# Altium integrated library Analog Devices Clock Generation and Distribution.IntLib: 120 symbols (part 10 of 18)
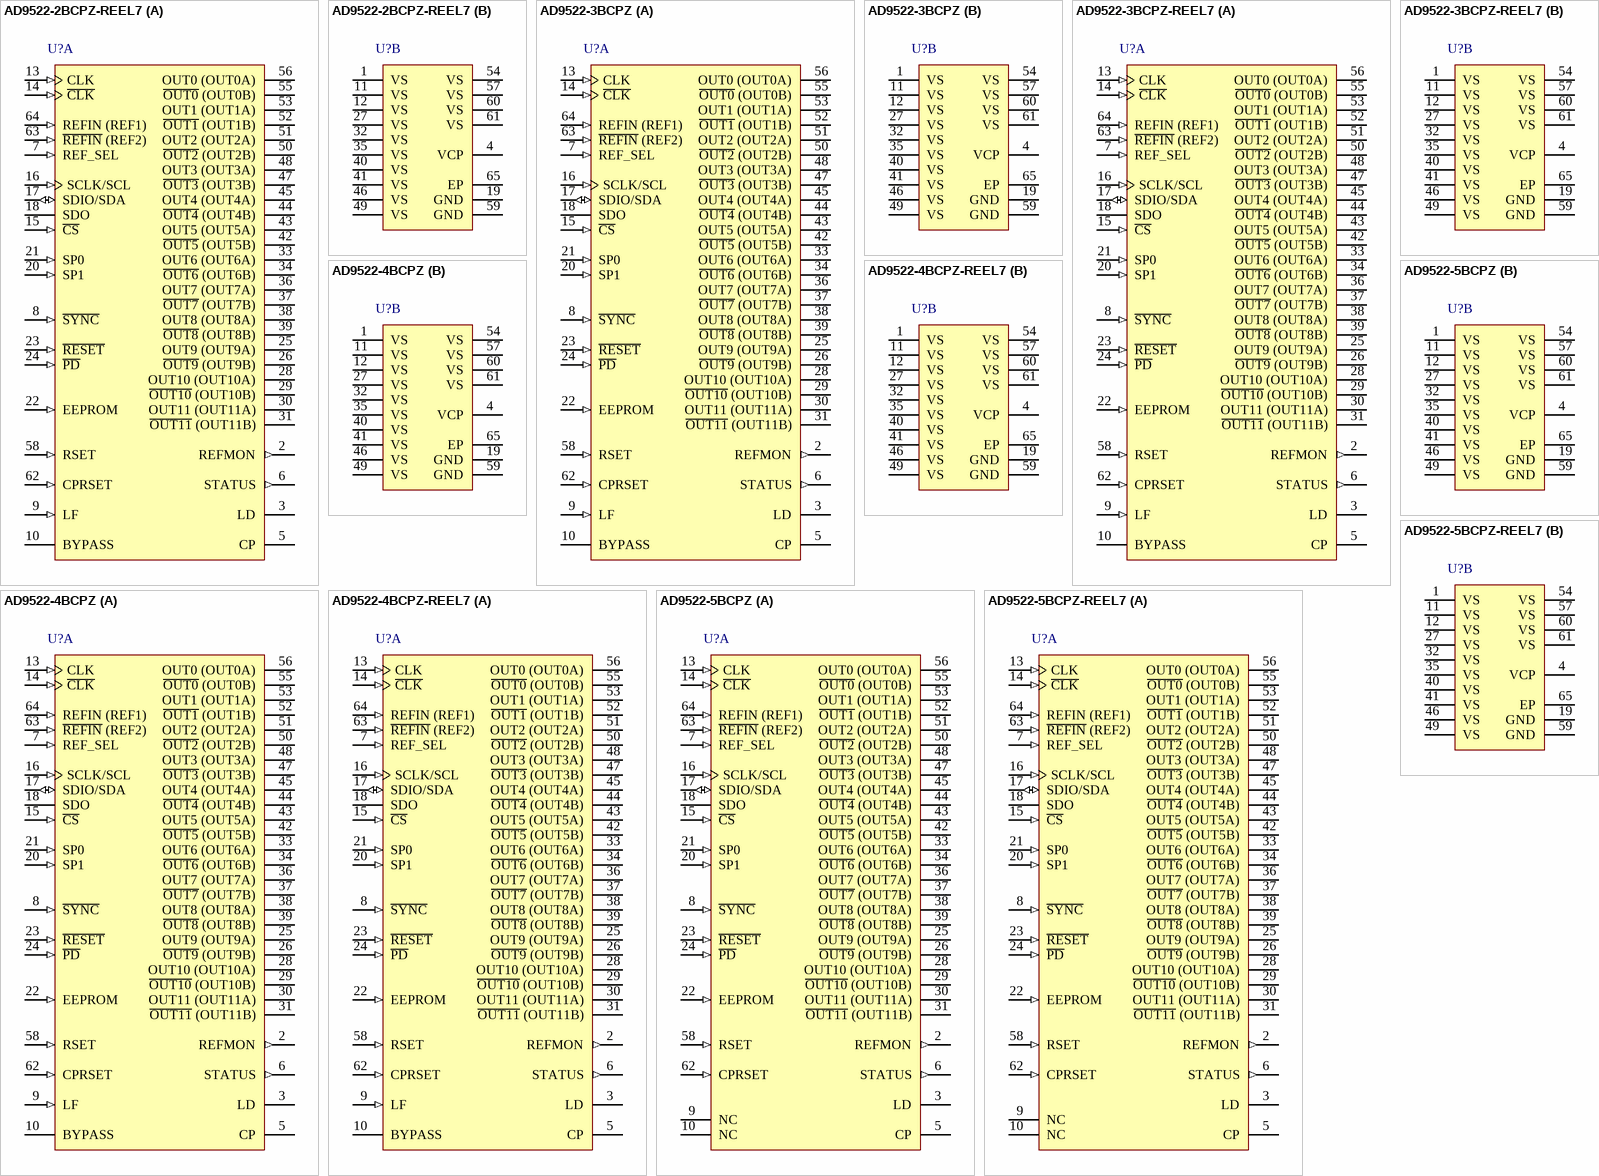
[diagram p21: symbols AD9522-2BCPZ-REEL7 to AD9522-5BCPZ-REEL7]

## AD9522-4BCPZ-REEL7
designator U?
12 LVDS / 24 CMOS Outputs Clock Generator with Integrated 1.6 GHz VCO, 3.3 V Supply, Industrial, 64-pin QFN (CP-64-4), Reel; Manufacturer: Analog Devices; PartNumber: AD9522-4BCPZ-REEL7; # of Inputs: 2; # of Outputs: 24; Supply Voltage (V): 3.3; I/O Interface: Serial; Max f-out: 1.8 GHz; On-Chip VCO or DCO: Yes; Output Logic: CMOS, LVDS; DatasheetVersion: Rev. 0; PackageVersion: 06-12-2012-B, 06/2012; PackageReference: CP-64-4; PackageDescription: 64-Pin Lead Frame Chip Scale Package, Body 9 x 9 mm, Pitch 0.5 mm; Supplier 1: Digi-Key; Supplier Part Number 1: AD9522-4BCPZ-REEL7-ND; Supplier 2: Newark; Supplier Part Number 2: 74R6036; Supplier 3: Mouser; Supplier Part Number 3: 584-AD9522-4BCPZR7; Packing: Reel; Mounting Technology: Surface Mount; Code_JEDEC: MO-220-VMMD-4; ComponentLink1Description: Manufacturer URL; ComponentLink1URL: http://www.analog.com/en/index.html; ComponentLink2Description: Datasheet; ComponentLink2URL: http://www.analog.com/static/imported-files/data_sheets/AD9522-4.pdf; ComponentLink3Description: Package Specification; ComponentLink3URL: http://www.analog.com/static/imported-files/packages/PKG_PDF/LFCSP(CP)/CP_64_4.pdf; ComponentLink4Description: Product URL; ComponentLink4URL: http://www.analog.com/en/clock-and-timing/clock-generation-and-distribution/ad9522-4/products/product.html
footprint ADI-CP-64-4_N (QFN, 64-Leads, Body 9x9mm, Pitch 0.5mm, Thermal Pad 6.2x6.2mm, IPC Medium Density)
footprint ADI-CP-64-4_L (QFN, 64-Leads, Body 9x9mm, Pitch 0.5mm, Thermal Pad 6.2x6.2mm, IPC High Density)
footprint ADI-CP-64-4_M (QFN, 64-Leads, Body 9x9mm, Pitch 0.5mm, Thermal Pad 6.2x6.2mm, IPC Low Density)
part A pins: 2 REFMON (out) "Reference Monitor (Output). This pin has multiple selectable outputs", 3 LD (hiz) "Lock Detect (Output). This pin has multiple selectable outputs.", 5 CP (hiz) "Charge Pump (Output). This pin connects to an external loop filter. This pin can be left unconnected if the PLL is not used.", 6 STATUS (out) "Programmable Status Output.", 7 REF_SEL (in) "Reference Select. It selects REF1 (low) or REF2 (high). This pin has an internal 30 K ohm pull-down resistor", 8 ~{SYNC} (in) "Manual Synchronizations and Manual Holdover. This pin initiates a manual synchronization and is used for manual holdover. Active low. This pin has an internal 30 K ohm pull-up resistor.", 9 LF (in) "Loop Filter (Input). It connects internally to the VCO control voltage node.", 10 BYPASS "This pin is for bypassing the LDO to ground with a 220 nF capacitor. This pin can be left unconnected if the PLL is not used.", 13 CLK (in) "Along with C\L\K\, this pin is the differential input for the clock distribution section.", 14 ~{CLK} (in) "Along with CLK, this pin is the differential input for the clock distribution section. If a single-ended input is connected to the CLK pin, connect a 0.1 uF bypass capacitor from this pin to ground.", 15 ~{CS} (in) "Serial Control Port Chip Select; Active Low. This pin has an internal 30 K ohm pull-up resistor.", 16 SCLK/SCL (in) "Serial Control Port Clock Signal. This pin has an internal 30 K ohm pull-down resistor in SPI mode but is high impedance in I2C mode", 17 SDIO/SDA (io) "Serial Control Port Bidirectional Serial Data In/Out", 18 SDO (hiz) "Serial Control Port Unidirectional Serial Data Out.", 20 SP1 (in) "Select SPI or I2C as the serial interface port and select the I2C slave address in I2C mode. Three-level logic. This pin is internally biased for the open logic level.", 21 SP0 (in) "Select SPI or I2C as the serial interface port and select the I2C slave address in I2C mode. Three-level logic. This pin is internally biased for the open logic level.", 22 EEPROM (in) "Setting this pin high selects the register values stored in the internal EEPROM to be loaded at reset and/or power-up. Setting this pin low causes the AD9522 to load the hard-coded default register values at power-up/reset. This pin has an internal 30 oh", 23 ~{RESET} (in) "Chip Reset, Active Low. This pin has an internal 30 K ohm pull-up resistor.", 24 ~{PD} (in) "Chip Power-Down, Active Low. This pin has an internal 30 K ohm pull-up resistor.", 25 OUT9 (OUT9A) (hiz) "Clock Output. This pin can be configured as one side of a differential LVDS outputor as a single-ended CMOS output.", 26 ~{OUT9} (OUT9B) (hiz) "Clock Output. This pin can be configured as one side of a differential LVDS outputor as a single-ended CMOS output.", 28 OUT10 (OUT10A) (hiz) "Clock Output. This pin can be configured as one side of a differential LVDS outputor as a single-ended CMOS output.", 29 ~{OUT10} (OUT10B) (hiz) "Clock Output. This pin can be configured as one side of a differential LVDS outputor as a single-ended CMOS output.", 30 OUT11 (OUT11A) (hiz) "Clock Output. This pin can be configured as one side of a differential LVDS outputor as a single-ended CMOS output.", 31 ~{OUT11} (OUT11B) (hiz) "Clock Output. This pin can be configured as one side of a differential LVDS outputor as a single-ended CMOS output.", 33 OUT6 (OUT6A) (hiz) "Clock Output. This pin can be configured as one side of a differential LVDS outputor as a single-ended CMOS output.", 34 ~{OUT6} (OUT6B) (hiz) "Clock Output. This pin can be configured as one side of a differential LVDS outputor as a single-ended CMOS output.", 36 OUT7 (OUT7A) (hiz) "Clock Output. This pin can be configured as one side of a differential LVDS outputor as a single-ended CMOS output.", 37 ~{OUT7} (OUT7B) (hiz) "Clock Output. This pin can be configured as one side of a differential LVDS outputor as a single-ended CMOS output.", 38 OUT8 (OUT8A) (hiz) "Clock Output. This pin can be configured as one side of a differential LVDS outputor as a single-ended CMOS output.", 39 ~{OUT8} (OUT8B) (hiz) "Clock Output. This pin can be configured as one side of a differential LVDS outputor as a single-ended CMOS output.", 42 ~{OUT5} (OUT5B) (hiz) "Clock Output. This pin can be configured as one side of a differential LVDS outputor as a single-ended CMOS output.", 43 OUT5 (OUT5A) (hiz) "Clock Output. This pin can be configured as one side of a differential LVDS outputor as a single-ended CMOS output.", 44 ~{OUT4} (OUT4B) (hiz) "Clock Output. This pin can be configured as one side of a differential LVDS outputor as a single-ended CMOS output.", 45 OUT4 (OUT4A) (hiz) "Clock Output. This pin can be configured as one side of a differential LVDS outputor as a single-ended CMOS output.", 47 ~{OUT3} (OUT3B) (hiz) "Clock Output. This pin can be configured as one side of a differential LVDS outputor as a single-ended CMOS output.", 48 OUT3 (OUT3A) (hiz) "Clock Output. This pin can be configured as one side of a differential LVDS outputor as a single-ended CMOS output.", 50 ~{OUT2} (OUT2B) (hiz) "Clock Output. This pin can be configured as one side of a differential LVDS outputor as a single-ended CMOS output.", 51 OUT2 (OUT2A) (hiz) "Clock Output. This pin can be configured as one side of a differential LVDS outputor as a single-ended CMOS output.", 52 ~{OUT1} (OUT1B) (hiz) "Clock Output. This pin can be configured as one side of a differential LVDS outputor as a single-ended CMOS output.", 53 OUT1 (OUT1A) (hiz) "Clock Output. This pin can be configured as one side of a differential LVDS outputor as a single-ended CMOS output.", 55 ~{OUT0} (OUT0B) (hiz) "Clock Output. This pin can be configured as one side of a differential LVDS outputor as a single-ended CMOS output.", 56 OUT0 (OUT0A) (hiz) "Clock Output. This pin can be configured as one side of a differential LVDS outputor as a single-ended CMOS output.", 58 RSET (in) "Clock Distribution Current Set Resistor. Connect a 4.12 K ohm resistor from this pin to GND.", 62 CPRSET (in) "Charge Pump Current Set Resistor. Connect a 5.1 K ohm resistor from this pin to GND.This resistor can be omitted if the PLL is not used.", 63 ~{REFIN} (REF2) (in) "Along with REFIN, this is the differential input for the PLL reference. Alternatively, this pin is a single-ended input for REF2.", 64 REFIN (REF1) (in) "Along with R\E\F\I\N\, this is the differential input for the PLL reference. Alternatively, this pin is a single-ended input for REF1."
part B pins: 1 VS (power) "3.3 V Power Pins.", 4 VCP (power) "Power Supply for Charge Pump (CP); VS < VCP < 5.0 V. VCP must still be connected to 3.3 V if the PLL is not used", 11 VS (power) "3.3 V Power Pins.", 12 VS (power) "3.3 V Power Pins.", 19 GND (power) "Ground Pins.", 27 VS (power) "3.3 V Power Pins.", 32 VS (power) "3.3 V Power Pins.", 35 VS (power) "3.3 V Power Pins.", 40 VS (power) "3.3 V Power Pins.", 41 VS (power) "3.3 V Power Pins.", 46 VS (power) "3.3 V Power Pins.", 49 VS (power) "3.3 V Power Pins.", 54 VS (power) "3.3 V Power Pins.", 57 VS (power) "3.3 V Power Pins.", 59 GND (power) "Ground Pins.", 60 VS (power) "3.3 V Power Pins.", 61 VS (power) "3.3 V Power Pins.", 65 EP (power) "The exposed die pad must be connected to GND."

## AD9522-5BCPZ
designator U?
12 LVDS / 24 CMOS Outputs Clock Generator, 3.3 V Supply, Industrial, 64-pin QFN (CP-64-4), Tray; Manufacturer: Analog Devices; PartNumber: AD9522-5BCPZ; # of Inputs: 2; # of Outputs: 24; Supply Voltage (V): 3.3; I/O Interface: Serial; Max f-out: 2.4 GHz; On-Chip VCO or DCO: No; Output Logic: CMOS, LVDS; DatasheetVersion: Rev. 0; PackageVersion: 06-12-2012-B, 06/2012; PackageReference: CP-64-4; PackageDescription: 64-Pin Lead Frame Chip Scale Package, Body 9 x 9 mm, Pitch 0.5 mm; Supplier 1: Digi-Key; Supplier Part Number 1: AD9522-5BCPZ-ND; Supplier 2: Mouser; Supplier Part Number 2: 584-AD9522-5BCPZ; Packing: Tray; Mounting Technology: Surface Mount; Code_JEDEC: MO-220-VMMD-4; ComponentLink1Description: Manufacturer URL; ComponentLink1URL: http://www.analog.com/en/index.html; ComponentLink2Description: Datasheet; ComponentLink2URL: http://www.analog.com/static/imported-files/data_sheets/AD9522-5.pdf; ComponentLink3Description: Package Specification; ComponentLink3URL: http://www.analog.com/static/imported-files/packages/PKG_PDF/LFCSP(CP)/CP_64_4.pdf; ComponentLink4Description: Product URL; ComponentLink4URL: http://www.analog.com/en/clock-and-timing/clock-generation-and-distribution/ad9522-5/products/product.html
footprint ADI-CP-64-4_N (QFN, 64-Leads, Body 9x9mm, Pitch 0.5mm, Thermal Pad 6.2x6.2mm, IPC Medium Density)
footprint ADI-CP-64-4_L (QFN, 64-Leads, Body 9x9mm, Pitch 0.5mm, Thermal Pad 6.2x6.2mm, IPC High Density)
footprint ADI-CP-64-4_M (QFN, 64-Leads, Body 9x9mm, Pitch 0.5mm, Thermal Pad 6.2x6.2mm, IPC Low Density)
part A pins: 2 REFMON (out) "Reference Monitor (Output). This pin has multiple selectable outputs.", 3 LD (hiz) "Lock Detect (Output). This pin has multiple selectable outputs.", 5 CP (hiz) "Charge Pump (Output). This pin connects to an external loop filter. This pin can be left unconnected if the PLL is not used.", 6 STATUS (out) "Programmable Status Output.", 7 REF_SEL (in) "Reference Select. It selects REF1 (low) or REF2 (high). This pin has an internal 30 K ohm pull-down resistor.", 8 ~{SYNC} (in) "Manual Synchronizations and Manual Holdover. This pin initiates a manual synchronization and is used for manual holdover. Active low. This pin has an internal 30 K ohm pull-up resistor.", 9 NC "No Connect. These pins can be left floating.", 10 NC "No Connect. These pins can be left floating.", 13 CLK (in) "Along with C\L\K\, this pin is the differential input for the clock distribution section.", 14 ~{CLK} (in) "Along with CLK, this pin is the differential input for the clock distribution section. If a single-ended input is connected to the CLK pin, connect a 0.1 uF bypass capacitor from this pin to ground.", 15 ~{CS} (in) "Serial Control Port Chip Select; Active Low. This pin has an internal 30 K ohm pull-up resistor.", 16 SCLK/SCL (in) "Serial Control Port Clock Signal. This pin has an internal 30 K ohm pull-down resistor in SPI mode but is high impedance in I2C mode.", 17 SDIO/SDA (io) "Serial Control Port Bidirectional Serial Data In/Out.", 18 SDO (hiz) "Serial Control Port Unidirectional Serial Data Out.", 20 SP1 (in) "Select SPI or I2C as the serial interface port and select the I2C slave address in I2C mode. Three-level logic. This pin is internally biased for the open logic level.", 21 SP0 (in) "Select SPI or I2C as the serial interface port and select the I2C slave address in I2C mode. Three-level logic. This pin is internally biased for the open logic level.", 22 EEPROM (in) "Setting this pin high selects the register values stored in the internal EEPROM to be loaded at reset and/or power-up. [see datasheet]", 23 ~{RESET} (in) "Chip Reset, Active Low. This pin has an internal 30 K ohm pull-up resistor.", 24 ~{PD} (in) "Chip Power-Down, Active Low. This pin has an internal 30 K ohm pull-up resistor.", 25 OUT9 (OUT9A) (hiz) "Clock Output. This pin can be configured as one side of a differential LVDS outputor as a single-ended CMOS output.", 26 ~{OUT9} (OUT9B) (hiz) "Clock Output. This pin can be configured as one side of a differential LVDS outputor as a single-ended CMOS output.", 28 OUT10 (OUT10A) (hiz) "Clock Output. This pin can be configured as one side of a differential LVDS outputor as a single-ended CMOS output.", 29 ~{OUT10} (OUT10B) (hiz) "Clock Output. This pin can be configured as one side of a differential LVDS outputor as a single-ended CMOS output.", 30 OUT11 (OUT11A) (hiz) "Clock Output. This pin can be configured as one side of a differential LVDS outputor as a single-ended CMOS output.", 31 ~{OUT11} (OUT11B) (hiz) "Clock Output. This pin can be configured as one side of a differential LVDS outputor as a single-ended CMOS output.", 33 OUT6 (OUT6A) (hiz) "Clock Output. This pin can be configured as one side of a differential LVDS outputor as a single-ended CMOS output.", 34 ~{OUT6} (OUT6B) (hiz) "Clock Output. This pin can be configured as one side of a differential LVDS outputor as a single-ended CMOS output.", 36 OUT7 (OUT7A) (hiz) "Clock Output. This pin can be configured as one side of a differential LVDS outputor as a single-ended CMOS output.", 37 ~{OUT7} (OUT7B) (hiz) "Clock Output. This pin can be configured as one side of a differential LVDS outputor as a single-ended CMOS output.", 38 OUT8 (OUT8A) (hiz) "Clock Output. This pin can be configured as one side of a differential LVDS outputor as a single-ended CMOS output.", 39 ~{OUT8} (OUT8B) (hiz) "Clock Output. This pin can be configured as one side of a differential LVDS outputor as a single-ended CMOS output.", 42 ~{OUT5} (OUT5B) (hiz) "Clock Output. This pin can be configured as one side of a differential LVDS outputor as a single-ended CMOS output.", 43 OUT5 (OUT5A) (hiz) "Clock Output. This pin can be configured as one side of a differential LVDS outputor as a single-ended CMOS output.", 44 ~{OUT4} (OUT4B) (hiz) "Clock Output. This pin can be configured as one side of a differential LVDS outputor as a single-ended CMOS output.", 45 OUT4 (OUT4A) (hiz) "Clock Output. This pin can be configured as one side of a differential LVDS outputor as a single-ended CMOS output.", 47 ~{OUT3} (OUT3B) (hiz) "Clock Output. This pin can be configured as one side of a differential LVDS outputor as a single-ended CMOS output.", 48 OUT3 (OUT3A) (hiz) "Clock Output. This pin can be configured as one side of a differential LVDS outputor as a single-ended CMOS output.", 50 ~{OUT2} (OUT2B) (hiz) "Clock Output. This pin can be configured as one side of a differential LVDS outputor as a single-ended CMOS output.", 51 OUT2 (OUT2A) (hiz) "Clock Output. This pin can be configured as one side of a differential LVDS outputor as a single-ended CMOS output.", 52 ~{OUT1} (OUT1B) (hiz) "Clock Output. This pin can be configured as one side of a differential LVDS outputor as a single-ended CMOS output.", 53 OUT1 (OUT1A) (hiz) "Clock Output. This pin can be configured as one side of a differential LVDS outputor as a single-ended CMOS output.", 55 ~{OUT0} (OUT0B) (hiz) "Clock Output. This pin can be configured as one side of a differential LVDS outputor as a single-ended CMOS output.", 56 OUT0 (OUT0A) (hiz) "Clock Output. This pin can be configured as one side of a differential LVDS outputor as a single-ended CMOS output.", 58 RSET (in) "Clock Distribution Current Set Resistor. Connect a 4.12 K ohm resistor from this pin to GND.", 62 CPRSET (in) "Charge Pump Current Set Resistor. Connect a 5.1 K ohm resistor from this pin to GND.This resistor can be omitted if the PLL is not used.", 63 ~{REFIN} (REF2) (in) "Along with REFIN, this is the differential input for the PLL reference. Alternatively, this pin is a single-ended input for REF2.", 64 REFIN (REF1) (in) "Along with R\E\F\I\N\, this is the differential input for the PLL reference. Alternatively, this pin is a single-ended input for REF1."
part B pins: 1 VS (power) "3.3 V Power Pins.", 4 VCP (power) "Power Supply for Charge Pump (CP); VS =< VCP =< 5.25 V. VCP must still be connected to 3.3 V if the PLL is not used.", 11 VS (power) "3.3 V Power Pins.", 12 VS (power) "3.3 V Power Pins.", 19 GND (power) "Ground Pins.", 27 VS (power) "3.3 V Power Pins.", 32 VS (power) "3.3 V Power Pins.", 35 VS (power) "3.3 V Power Pins.", 40 VS (power) "3.3 V Power Pins.", 41 VS (power) "3.3 V Power Pins.", 46 VS (power) "3.3 V Power Pins.", 49 VS (power) "3.3 V Power Pins.", 54 VS (power) "3.3 V Power Pins.", 57 VS (power) "3.3 V Power Pins.", 59 GND (power) "Ground Pins.", 60 VS (power) "3.3 V Power Pins.", 61 VS (power) "3.3 V Power Pins.", 65 EP (power) "The exposed die pad must be connected to GND."

## AD9522-5BCPZ-REEL7
designator U?
12 LVDS / 24 CMOS Outputs Clock Generator, 3.3 V Supply, Industrial, 64-pin QFN (CP-64-4), Reel; Manufacturer: Analog Devices; PartNumber: AD9522-5BCPZ-REEL7; # of Inputs: 2; # of Outputs: 24; Supply Voltage (V): 3.3; I/O Interface: Serial; Max f-out: 2.4 GHz; On-Chip VCO or DCO: No; Output Logic: CMOS, LVDS; DatasheetVersion: Rev. 0; PackageVersion: 06-12-2012-B, 06/2012; PackageReference: CP-64-4; PackageDescription: 64-Pin Lead Frame Chip Scale Package, Body 9 x 9 mm, Pitch 0.5 mm; Supplier 1: Digi-Key; Supplier Part Number 1: AD9522-5BCPZ-REEL7-ND; Supplier 2: Mouser; Supplier Part Number 2: 584-AD9522-5BCPZR7; Packing: Reel; Mounting Technology: Surface Mount; Code_JEDEC: MO-220-VMMD-4; ComponentLink1Description: Manufacturer URL; ComponentLink1URL: http://www.analog.com/en/index.html; ComponentLink2Description: Datasheet; ComponentLink2URL: http://www.analog.com/static/imported-files/data_sheets/AD9522-5.pdf; ComponentLink3Description: Package Specification; ComponentLink3URL: http://www.analog.com/static/imported-files/packages/PKG_PDF/LFCSP(CP)/CP_64_4.pdf; ComponentLink4Description: Product URL; ComponentLink4URL: http://www.analog.com/en/clock-and-timing/clock-generation-and-distribution/ad9522-5/products/product.html
footprint ADI-CP-64-4_N (QFN, 64-Leads, Body 9x9mm, Pitch 0.5mm, Thermal Pad 6.2x6.2mm, IPC Medium Density)
footprint ADI-CP-64-4_L (QFN, 64-Leads, Body 9x9mm, Pitch 0.5mm, Thermal Pad 6.2x6.2mm, IPC High Density)
footprint ADI-CP-64-4_M (QFN, 64-Leads, Body 9x9mm, Pitch 0.5mm, Thermal Pad 6.2x6.2mm, IPC Low Density)
part A pins: 2 REFMON (out) "Reference Monitor (Output). This pin has multiple selectable outputs.", 3 LD (hiz) "Lock Detect (Output). This pin has multiple selectable outputs.", 5 CP (hiz) "Charge Pump (Output). This pin connects to an external loop filter. This pin can be left unconnected if the PLL is not used.", 6 STATUS (out) "Programmable Status Output.", 7 REF_SEL (in) "Reference Select. It selects REF1 (low) or REF2 (high). This pin has an internal 30 K ohm pull-down resistor.", 8 ~{SYNC} (in) "Manual Synchronizations and Manual Holdover. This pin initiates a manual synchronization and is used for manual holdover. Active low. This pin has an internal 30 K ohm pull-up resistor.", 9 NC "No Connect. These pins can be left floating.", 10 NC "No Connect. These pins can be left floating.", 13 CLK (in) "Along with C\L\K\, this pin is the differential input for the clock distribution section.", 14 ~{CLK} (in) "Along with CLK, this pin is the differential input for the clock distribution section. If a single-ended input is connected to the CLK pin, connect a 0.1 uF bypass capacitor from this pin to ground.", 15 ~{CS} (in) "Serial Control Port Chip Select; Active Low. This pin has an internal 30 K ohm pull-up resistor.", 16 SCLK/SCL (in) "Serial Control Port Clock Signal. This pin has an internal 30 K ohm pull-down resistor in SPI mode but is high impedance in I2C mode.", 17 SDIO/SDA (io) "Serial Control Port Bidirectional Serial Data In/Out.", 18 SDO (hiz) "Serial Control Port Unidirectional Serial Data Out.", 20 SP1 (in) "Select SPI or I2C as the serial interface port and select the I2C slave address in I2C mode. Three-level logic. This pin is internally biased for the open logic level.", 21 SP0 (in) "Select SPI or I2C as the serial interface port and select the I2C slave address in I2C mode. Three-level logic. This pin is internally biased for the open logic level.", 22 EEPROM (in) "Setting this pin high selects the register values stored in the internal EEPROM to be loaded at reset and/or power-up. [see datasheet]", 23 ~{RESET} (in) "Chip Reset, Active Low. This pin has an internal 30 K ohm pull-up resistor.", 24 ~{PD} (in) "Chip Power-Down, Active Low. This pin has an internal 30 K ohm pull-up resistor.", 25 OUT9 (OUT9A) (hiz) "Clock Output. This pin can be configured as one side of a differential LVDS outputor as a single-ended CMOS output.", 26 ~{OUT9} (OUT9B) (hiz) "Clock Output. This pin can be configured as one side of a differential LVDS outputor as a single-ended CMOS output.", 28 OUT10 (OUT10A) (hiz) "Clock Output. This pin can be configured as one side of a differential LVDS outputor as a single-ended CMOS output.", 29 ~{OUT10} (OUT10B) (hiz) "Clock Output. This pin can be configured as one side of a differential LVDS outputor as a single-ended CMOS output.", 30 OUT11 (OUT11A) (hiz) "Clock Output. This pin can be configured as one side of a differential LVDS outputor as a single-ended CMOS output.", 31 ~{OUT11} (OUT11B) (hiz) "Clock Output. This pin can be configured as one side of a differential LVDS outputor as a single-ended CMOS output.", 33 OUT6 (OUT6A) (hiz) "Clock Output. This pin can be configured as one side of a differential LVDS outputor as a single-ended CMOS output.", 34 ~{OUT6} (OUT6B) (hiz) "Clock Output. This pin can be configured as one side of a differential LVDS outputor as a single-ended CMOS output.", 36 OUT7 (OUT7A) (hiz) "Clock Output. This pin can be configured as one side of a differential LVDS outputor as a single-ended CMOS output.", 37 ~{OUT7} (OUT7B) (hiz) "Clock Output. This pin can be configured as one side of a differential LVDS outputor as a single-ended CMOS output.", 38 OUT8 (OUT8A) (hiz) "Clock Output. This pin can be configured as one side of a differential LVDS outputor as a single-ended CMOS output.", 39 ~{OUT8} (OUT8B) (hiz) "Clock Output. This pin can be configured as one side of a differential LVDS outputor as a single-ended CMOS output.", 42 ~{OUT5} (OUT5B) (hiz) "Clock Output. This pin can be configured as one side of a differential LVDS outputor as a single-ended CMOS output.", 43 OUT5 (OUT5A) (hiz) "Clock Output. This pin can be configured as one side of a differential LVDS outputor as a single-ended CMOS output.", 44 ~{OUT4} (OUT4B) (hiz) "Clock Output. This pin can be configured as one side of a differential LVDS outputor as a single-ended CMOS output.", 45 OUT4 (OUT4A) (hiz) "Clock Output. This pin can be configured as one side of a differential LVDS outputor as a single-ended CMOS output.", 47 ~{OUT3} (OUT3B) (hiz) "Clock Output. This pin can be configured as one side of a differential LVDS outputor as a single-ended CMOS output.", 48 OUT3 (OUT3A) (hiz) "Clock Output. This pin can be configured as one side of a differential LVDS outputor as a single-ended CMOS output.", 50 ~{OUT2} (OUT2B) (hiz) "Clock Output. This pin can be configured as one side of a differential LVDS outputor as a single-ended CMOS output.", 51 OUT2 (OUT2A) (hiz) "Clock Output. This pin can be configured as one side of a differential LVDS outputor as a single-ended CMOS output.", 52 ~{OUT1} (OUT1B) (hiz) "Clock Output. This pin can be configured as one side of a differential LVDS outputor as a single-ended CMOS output.", 53 OUT1 (OUT1A) (hiz) "Clock Output. This pin can be configured as one side of a differential LVDS outputor as a single-ended CMOS output.", 55 ~{OUT0} (OUT0B) (hiz) "Clock Output. This pin can be configured as one side of a differential LVDS outputor as a single-ended CMOS output.", 56 OUT0 (OUT0A) (hiz) "Clock Output. This pin can be configured as one side of a differential LVDS outputor as a single-ended CMOS output.", 58 RSET (in) "Clock Distribution Current Set Resistor. Connect a 4.12 K ohm resistor from this pin to GND.", 62 CPRSET (in) "Charge Pump Current Set Resistor. Connect a 5.1 K ohm resistor from this pin to GND.This resistor can be omitted if the PLL is not used.", 63 ~{REFIN} (REF2) (in) "Along with REFIN, this is the differential input for the PLL reference. Alternatively, this pin is a single-ended input for REF2.", 64 REFIN (REF1) (in) "Along with R\E\F\I\N\, this is the differential input for the PLL reference. Alternatively, this pin is a single-ended input for REF1."
part B pins: 1 VS (power) "3.3 V Power Pins.", 4 VCP (power) "Power Supply for Charge Pump (CP); VS =< VCP =< 5.25 V. VCP must still be connected to 3.3 V if the PLL is not used.", 11 VS (power) "3.3 V Power Pins.", 12 VS (power) "3.3 V Power Pins.", 19 GND (power) "Ground Pins.", 27 VS (power) "3.3 V Power Pins.", 32 VS (power) "3.3 V Power Pins.", 35 VS (power) "3.3 V Power Pins.", 40 VS (power) "3.3 V Power Pins.", 41 VS (power) "3.3 V Power Pins.", 46 VS (power) "3.3 V Power Pins.", 49 VS (power) "3.3 V Power Pins.", 54 VS (power) "3.3 V Power Pins.", 57 VS (power) "3.3 V Power Pins.", 59 GND (power) "Ground Pins.", 60 VS (power) "3.3 V Power Pins.", 61 VS (power) "3.3 V Power Pins.", 65 EP (power) "The exposed die pad must be connected to GND."

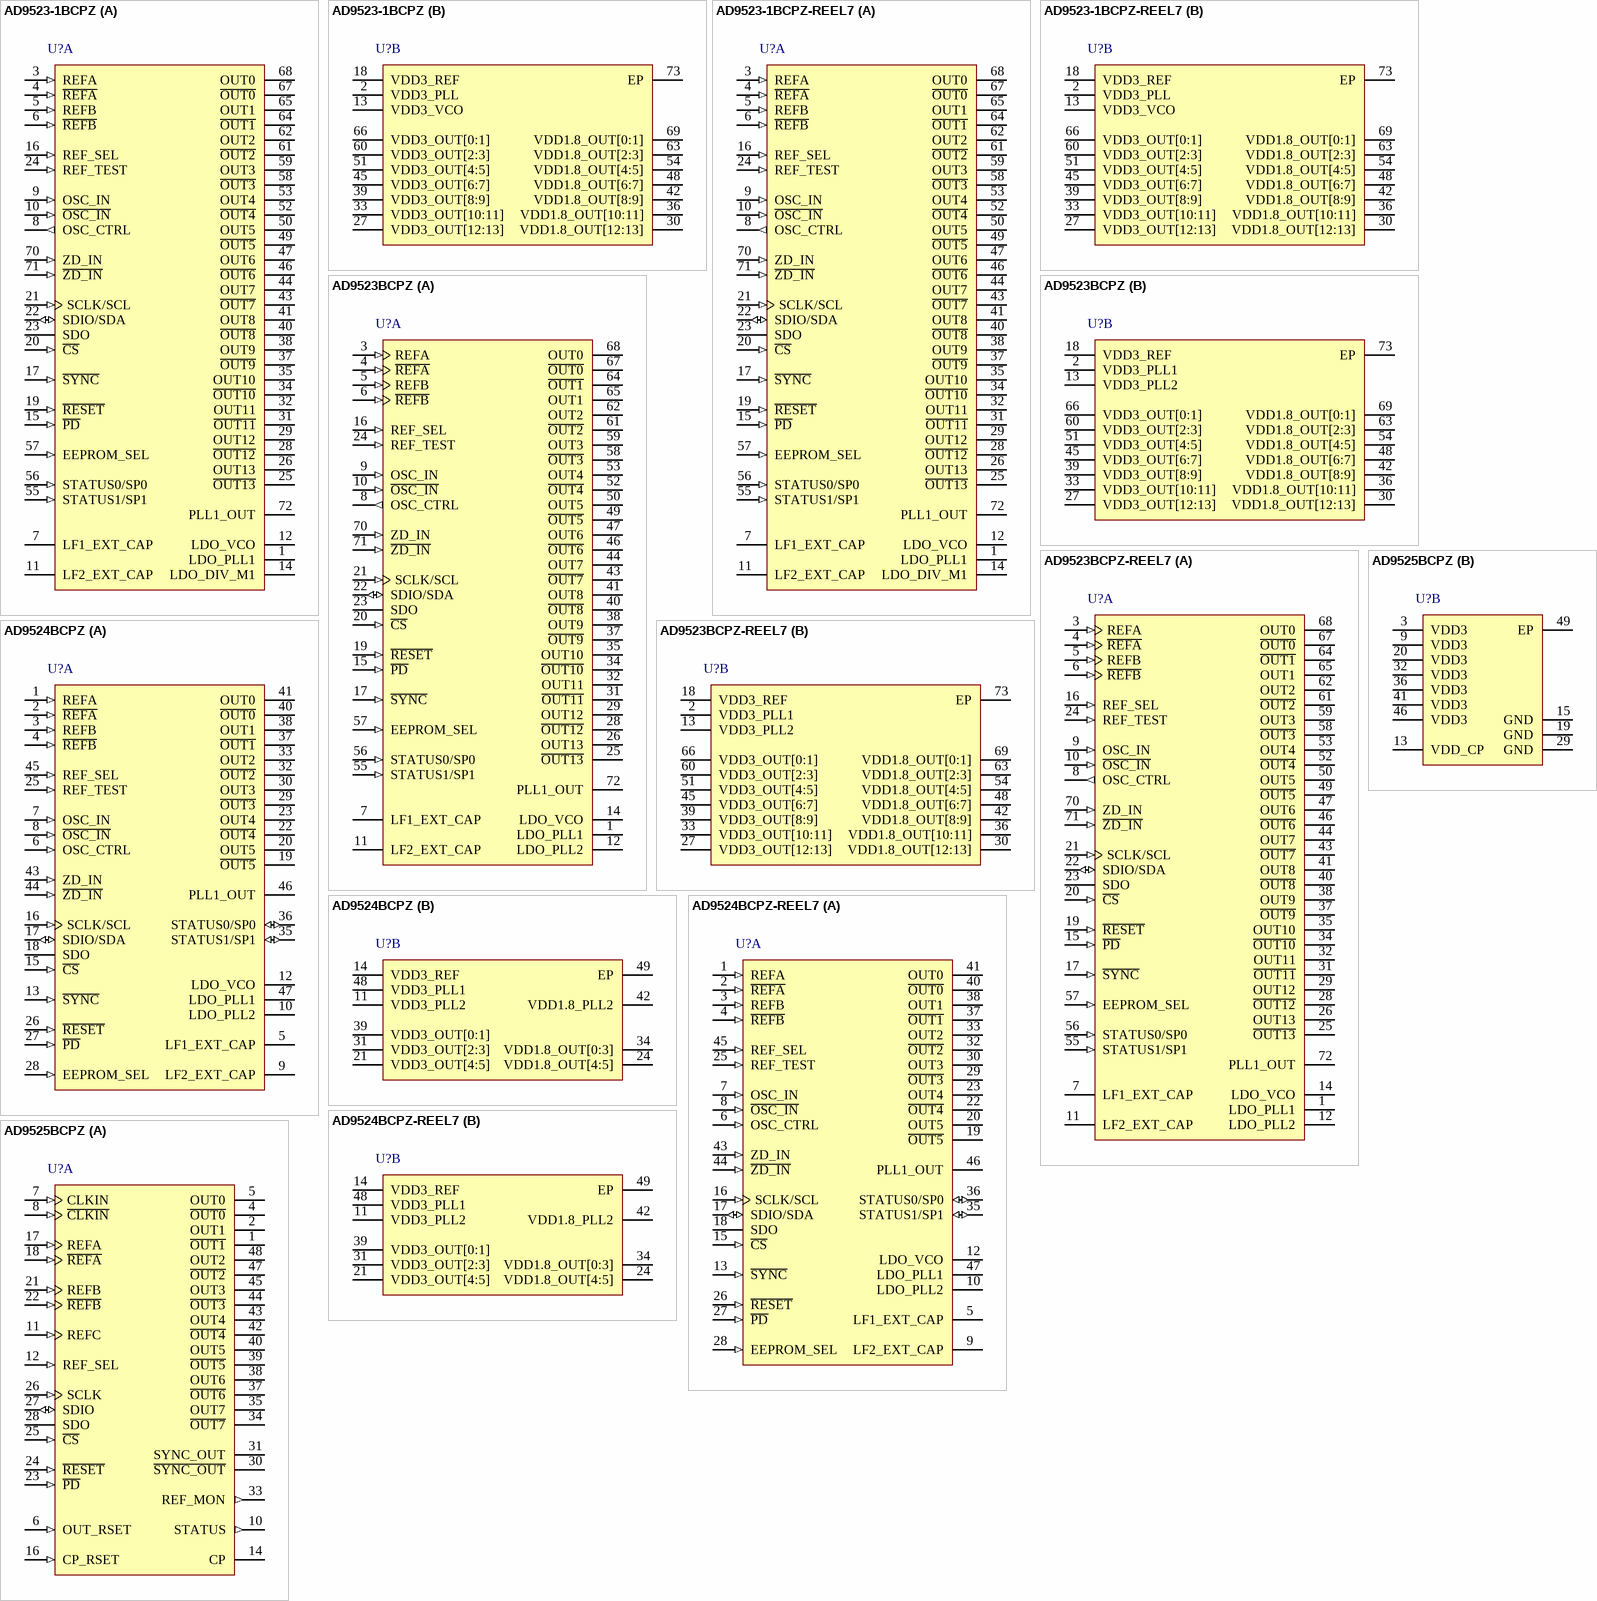
[diagram p7: symbols AD9523-1BCPZ to AD9525BCPZ]

## AD9523-1BCPZ
designator U?
14 LVPECL / LVDS / HSTL / 29 LVCMOS Outputs, Low Jitter Clock Generator, 3.3 V Supply, Industrial, 72-pin QFN (CP-72-7), Tray; Manufacturer: Analog Devices; PartNumber: AD9523-1BCPZ; # of Inputs: 1; # of Outputs: 29; Supply Voltage (V): 3.3; I/O Interface: Serial; Max f-out: 1 GHz; On-Chip VCO or DCO: Yes; Output Logic: LVCMOS, HSTL, LVDS, LVPECL; DatasheetVersion: Rev. B; PackageVersion: 052809-A, 09/2009; PackageReference: CP-72-7; PackageDescription: 72-Pin Lead Frame Chip Scale Package, Body 10 x 10 mm, Pitch 0.5 mm; Supplier 1: Digi-Key; Supplier Part Number 1: AD9523-1BCPZ-ND; Supplier 2: Farnell; Supplier Part Number 2: 2321453; Supplier 3: Newark; Supplier Part Number 3: 99W6467; Supplier 4: Mouser; Supplier Part Number 4: 584-AD9523-1BCPZ; Packing: Tray; Mounting Technology: Surface Mount; Code_JEDEC: MO-220-VNND-4; ComponentLink1Description: Manufacturer URL; ComponentLink1URL: http://www.analog.com/en/index.html; ComponentLink2Description: Datasheet; ComponentLink2URL: http://www.analog.com/static/imported-files/data_sheets/AD9523-1.pdf; ComponentLink3Description: Package Specification; ComponentLink3URL: http://www.analog.com/static/imported-files/packages/PKG_PDF/LFCSP(CP)/CP_72_7.pdf; ComponentLink4Description: Product URL; ComponentLink4URL: http://www.analog.com/en/clock-and-timing/clock-generation-and-distribution/ad9523-1/products/product.html
footprint ADI-CP-72-7_N (QFN, 72-Leads, Body 10x10mm, Pitch 0.5mm, Thermal Pad 6x6mm, IPC Medium Density)
footprint ADI-CP-72-7_L (QFN, 72-Leads, Body 10x10mm, Pitch 0.5mm, Thermal Pad 6x6mm, IPC High Density)
footprint ADI-CP-72-7_M (QFN, 72-Leads, Body 10x10mm, Pitch 0.5mm, Thermal Pad 6x6mm, IPC Low Density)
part A pins: 1 LDO_PLL1 "1.8 V Internal LDO Regulator Decoupling Pin for PLL1. Connect a 0.47 uF decoupling capacitor from this pin to ground. Note that for best performance, the LDO bypass capacitor must be placed in close proximity to the device.", 3 REFA (in) "Reference Clock Input A. Along with R\E\F\A\, this pin is the differential input for the PLL reference. Alternatively, this pin can be programmed as a single-ended 3.3 V CMOS input.", 4 ~{REFA} (in) "Complementary Reference Clock Input A. Along with REFA, this pin is the differential input for the PLL reference. Alternatively, this pin can be programmed as a single-ended 3.3V CMOS input.", 5 REFB (in) "Reference Clock Input B. Along with R\E\F\B\, this pin is the differential input for the PLL reference. Alternatively, this pin can be programmed as a single-ended 3.3 V CMOS input.", 6 ~{REFB} (in) "Complementary Reference Clock Input B. Along with REFB, this pin is the differential input for the PLL reference. Alternatively, this pin can be programmed as a single-ended 3.3 V CMOS input.", 7 LF1_EXT_CAP "PLL1 External Loop Filter Capacitor. Connect this pin to ground.", 8 OSC_CTRL (out) "Oscillator Control Voltage. Connect this pin to the voltage control pin of the external oscillator.", 9 OSC_IN (in) "PLL1 Oscillator Input. Along with O\S\C\_\I\N\, this pin is the differential input for the PLL reference. Alternatively, this pin can be programmed as a single-ended 3.3 V CMOS input.", 10 ~{OSC_IN} (in) "Complementary PLL1 Oscillator Input. Along with OSC_IN, this pin is the differential input for the PLL reference. Alternatively, this pin can be programmed as a single-ended 3.3 V CMOS input.", 11 LF2_EXT_CAP "PLL2 External Loop Filter Capacitor Connection. Connect capacitor to this pin and the LDO_VCO pin.", 12 LDO_VCO "2.5 V LDO Internal Regulator Decoupling Pin for VCO. Connect a 0.47 uF decoupling capacitor from this pin to ground. Note that, for best performance, the LDO bypass capacitor must be placed in close proximity to the device.", 14 LDO_DIV_M1 "1.8 V LDO Regulator Decoupling Pin for VCO Divider M1. Connect a 0.47 uF decoupling capacitor from this pin to ground. Note that, for best performance, the LDO bypass capacitor must be placed in close proximity to the device.", 15 ~{PD} (in) "Chip Power-Down, Active Low. This pin has an internal 40 K ohm pull-up resistor.", 16 REF_SEL (in) "Reference Input Select. This pin has an internal 40 K ohm pull-down resistor.", 17 ~{SYNC} (in) "Manual Synchronization. This pin initiates a manual synchronization and has an internal 40 K ohm pull-up resistor.", 19 ~{RESET} (in) "Digital Input, Active Low. Resets internal logic to default states. This pin has an internal 40 K ohm pull-up resistor.", 20 ~{CS} (in) "Serial Control Port Chip Select, Active Low. This pin has an internal 40 K ohm pull-up resistor.", 21 SCLK/SCL (in) "Serial Control Port Clock Signal for SPI Mode (SCLK) or I2C Mode (SCL). Data clock for serial program-ming. This pin has an internal 40 K ohm pull-down resistor in SPI mode but is high impedance in I2C mode.", 22 SDIO/SDA (io) "Serial Control Port Bidirectional Serial Data In/Data Out for SPI Mode (SDIO) or I2C Mode (SDA).", 23 SDO (hiz) "Serial Data Output. Use this pin to read data in 4-wire mode (high impedance in 3-wire mode). There is no internal pull-up/pull-down resistor on this pin.", 24 REF_TEST (in) "Test Input to PLL1 Phase Detector.", 25 ~{OUT13} (hiz) "Complementary Square Wave Clocking Output 13. This pin can be configured as one side of a differential LVPECL/LVDS/HSTL output or as a single-ended CMOS output.", 26 OUT13 (hiz) "Square Wave Clocking Output 13. This pin can be configured as one side of a differential LVPECL/ LVDS/HSTL output or as a single-ended CMOS output.", 28 ~{OUT12} (hiz) "Complementary Square Wave Clocking Output 12. This pin can be configured as one side of a differential LVPECL/LVDS/HSTL output or as a single-ended CMOS output.", 29 OUT12 (hiz) "Square Wave Clocking Output 12. This pin can be configured as one side of a differential LVPECL/ LVDS/HSTL output or as a single-ended CMOS output.", 31 ~{OUT11} (hiz) "Complementary Square Wave Clocking Output 11. This pin can be configured as one side of a differential LVPECL/LVDS/HSTL output or as a single-ended CMOS output.", 32 OUT11 (hiz) "Square Wave Clocking Output 11. This pin can be configured as one side of a differential LVPECL/ LVDS/HSTL output or as a single-ended CMOS output.", 34 ~{OUT10} (hiz) "Complementary Square Wave Clocking Output 10. This pin can be configured as one side of a differential LVPECL/LVDS/HSTL output or as a single-ended CMOS output.", 35 OUT10 (hiz) "Square Wave Clocking Output 10. This pin can be configured as one side of a differential LVPECL/ LVDS/HSTL output or as a single-ended CMOS output.", 37 ~{OUT9} (hiz) "Complementary Square Wave Clocking Output 9. This pin can be configured as one side of a differential LVPECL/LVDS/HSTL output or as a single-ended CMOS output.", 38 OUT9 (hiz) "Square Wave Clocking Output 9. This pin can be configured as one side of a differential LVPECL/ LVDS/HSTL output or as a single-ended CMOS output.", 40 ~{OUT8} (hiz) "Complementary Square Wave Clocking Output 8. This pin can be configured as one side of a differential LVPECL/LVDS/HSTL output or as a single-ended CMOS output.", 41 OUT8 (hiz) "Square Wave Clocking Output 8. This pin can be configured as one side of a differential LVPECL/ LVDS/HSTL output or as a single-ended CMOS output.", 43 ~{OUT7} (hiz) "Complementary Square Wave Clocking Output 7. This pin can be configured as one side of a differential LVPECL/LVDS/HSTL output or as a single-ended CMOS output.", 44 OUT7 (hiz) "Square Wave Clocking Output 7. This pin can be configured as one side of a differential LVPECL/ LVDS/HSTL output or as a single-ended CMOS output.", 46 ~{OUT6} (hiz) "Complementary Square Wave Clocking Output 6. This pin can be configured as one side of a differential LVPECL/LVDS/HSTL output or as a single-ended CMOS output.", 47 OUT6 (hiz) "Square Wave Clocking Output 6. This pin can be configured as one side of a differential LVPECL/ LVDS/HSTL output or as a single-ended CMOS output.", 49 ~{OUT5} (hiz) "Complementary Square Wave Clocking Output 5. This pin can be configured as one side of a differential LVPECL/LVDS/HSTL output or as a single-ended CMOS output.", 50 OUT5 (hiz) "Square Wave Clocking Output 5. This pin can be configured as one side of a differential LVPECL/ LVDS/HSTL output or as a single-ended CMOS output.", 52 ~{OUT4} (hiz) "Complementary Square Wave Clocking Output 4. This pin can be configured as one side of a differential LVPECL/LVDS/HSTL output or as a single-ended CMOS output.", 53 OUT4 (hiz) "Square Wave Clocking Output 4. This pin can be configured as one side of a differential LVPECL/ LVDS/HSTL output or as a single-ended CMOS output.", 55 STATUS1/SP1 (in) "Lock Detect and Other Status Signals (STATUS1)/I2C Address (SP1). This pin has an internal 40 K ohm pull-down resistor.", 56 STATUS0/SP0 (in) "Lock Detect and Other Status Signals (STATUS0)/I2C Address (SP0). This pin has an internal 40 K ohm pull-down resistor.", 57 EEPROM_SEL (in) "EEPROM Select. Setting this pin high selects the register values stored in the internal EEPROM to be loaded at reset and/or power-up. Setting this pin low causes the AD9523-1 to load the hard-coded default register values at power-up/reset. This pin has", 58 ~{OUT3} (hiz) "Complementary Square Wave Clocking Output 3. This pin can be configured as one side of a differential LVPECL/LVDS/HSTL output or as a single-ended CMOS output.", 59 OUT3 (hiz) "Square Wave Clocking Output 3. This pin can be configured as one side of a differential LVPECL/ LVDS/HSTL output or as a single-ended CMOS output.", 61 ~{OUT2} (hiz) "Complementary Square Wave Clocking Output 2. This pin can be configured as one side of a differential LVPECL/LVDS/HSTL output or as a single-ended CMOS output.", 62 OUT2 (hiz) "Square Wave Clocking Output 2. This pin can be configured as one side of a differential LVPECL/ LVDS/HSTL output or as a single-ended CMOS output.", 64 ~{OUT1} (hiz) "Complementary Square Wave Clocking Output 1. This pin can be configured as one side of a differential LVPECL/LVDS/HSTL output or as a single-ended CMOS output.", 65 OUT1 (hiz) "Square Wave Clocking Output 1. This pin can be configured as one side of a differential LVPECL/ LVDS/HSTL output or as a single-ended CMOS output.", 67 ~{OUT0} (hiz) "Complementary Square Wave Clocking Output 0. This pin can be configured as one side of a differential LVPECL/LVDS/HSTL output or as a single-ended CMOS output.", 68 OUT0 (hiz) "Square Wave Clocking Output 0. This pin can be configured as one side of a differential LVPECL/ LVDS/HSTL output or as a single-ended CMOS output.", 70 ZD_IN (in) "External Zero Delay Clock Input. Along with Z\D\_\I\N\, this pin is the differential input for the PLL reference. Alternatively, this pin can be programmed as a single-ended 3.3 V CMOS input.", 71 ~{ZD_IN} (in) "Complementary External Zero Delay Clock Input. Along with ZD_IN, this pin is the differential input for the PLL reference. Alternatively, this pin can be programmed as a single-ended 3.3 V CMOS input.", 72 PLL1_OUT (hiz) "Single-Ended CMOS Output from PLL1. This pin has settings for weak and strong in Register 0x1BA, Bit 4 (see Table 52)."
part B pins: 2 VDD3_PLL (power) "3.3 V Supply PLL1 and PLL2. Use the same supply as VCXO.", 13 VDD3_VCO (power) "3.3 V Supply for VCO and VCO M1 Divider.", 18 VDD3_REF (power) "3.3 V Supply for Output Clock Drivers Reference and VCO Divider M2.", 27 VDD3_OUT[12:13] (power) "3.3 V Supply for Output 12 and Output 13 Clock Drivers.", 30 VDD1.8_OUT[12:13] (power) "1.8 V Supply for Output 12 and Output 13 Clock Dividers.", 33 VDD3_OUT[10:11] (power) "3.3 V Supply for Output 10 and Output 11 Clock Drivers.", 36 VDD1.8_OUT[10:11] (power) "1.8 V Supply for Output 10 and Output 11 Clock Dividers.", 39 VDD3_OUT[8:9] (power) "3.3 V Supply for Output 8 and Output 9 Clock Drivers.", 42 VDD1.8_OUT[8:9] (power) "1.8 V Supply for Output 8 and Output 9 Clock Dividers.", 45 VDD3_OUT[6:7] (power) "3.3 V Supply for Output 6 and Supply Output 7 Clock Drivers.", 48 VDD1.8_OUT[6:7] (power) "1.8 V Supply for Output 6 and Output 7 Clock Dividers.", 51 VDD3_OUT[4:5] (power) "3.3 V Supply for Output 4 and Output 5 Clock Drivers.", 54 VDD1.8_OUT[4:5] (power) "1.8 V Supply for Output 4 and Output 5 Clock Dividers.", 60 VDD3_OUT[2:3] (power) "3.3 V Supply for Output 2 and Output 3 Clock Drivers.", 63 VDD1.8_OUT[2:3] (power) "1.8 V Supply for Output 2 and Output 3 Clock Dividers.", 66 VDD3_OUT[0:1] (power) "3.3 V Supply for Output 0 and Output 1 Clock Drivers.", 69 VDD1.8_OUT[0:1] (power) "1.8 V Supply for Output 0 and Output 1 Clock Dividers.", 73 EP (power) "Exposed Paddle. The exposed paddle is the ground connection on the chip. It must be soldered to the analog ground of the PCB to ensure proper functionality and heat dissipation, noise, and mechanical strength benefits."